# Altium footprint library optics.PcbLib: 67 footprints (part 3 of 5)
Each footprint in its own frame and in the unit in brackets; x right, y up, seen from the top. Pads: shape width x height; smd on the part's side, far side on the other; paste and mask are expansions set on the pad; w line width, h text height; cw(c..) or ccw(c..) is an arc to the next point about the centre after c.
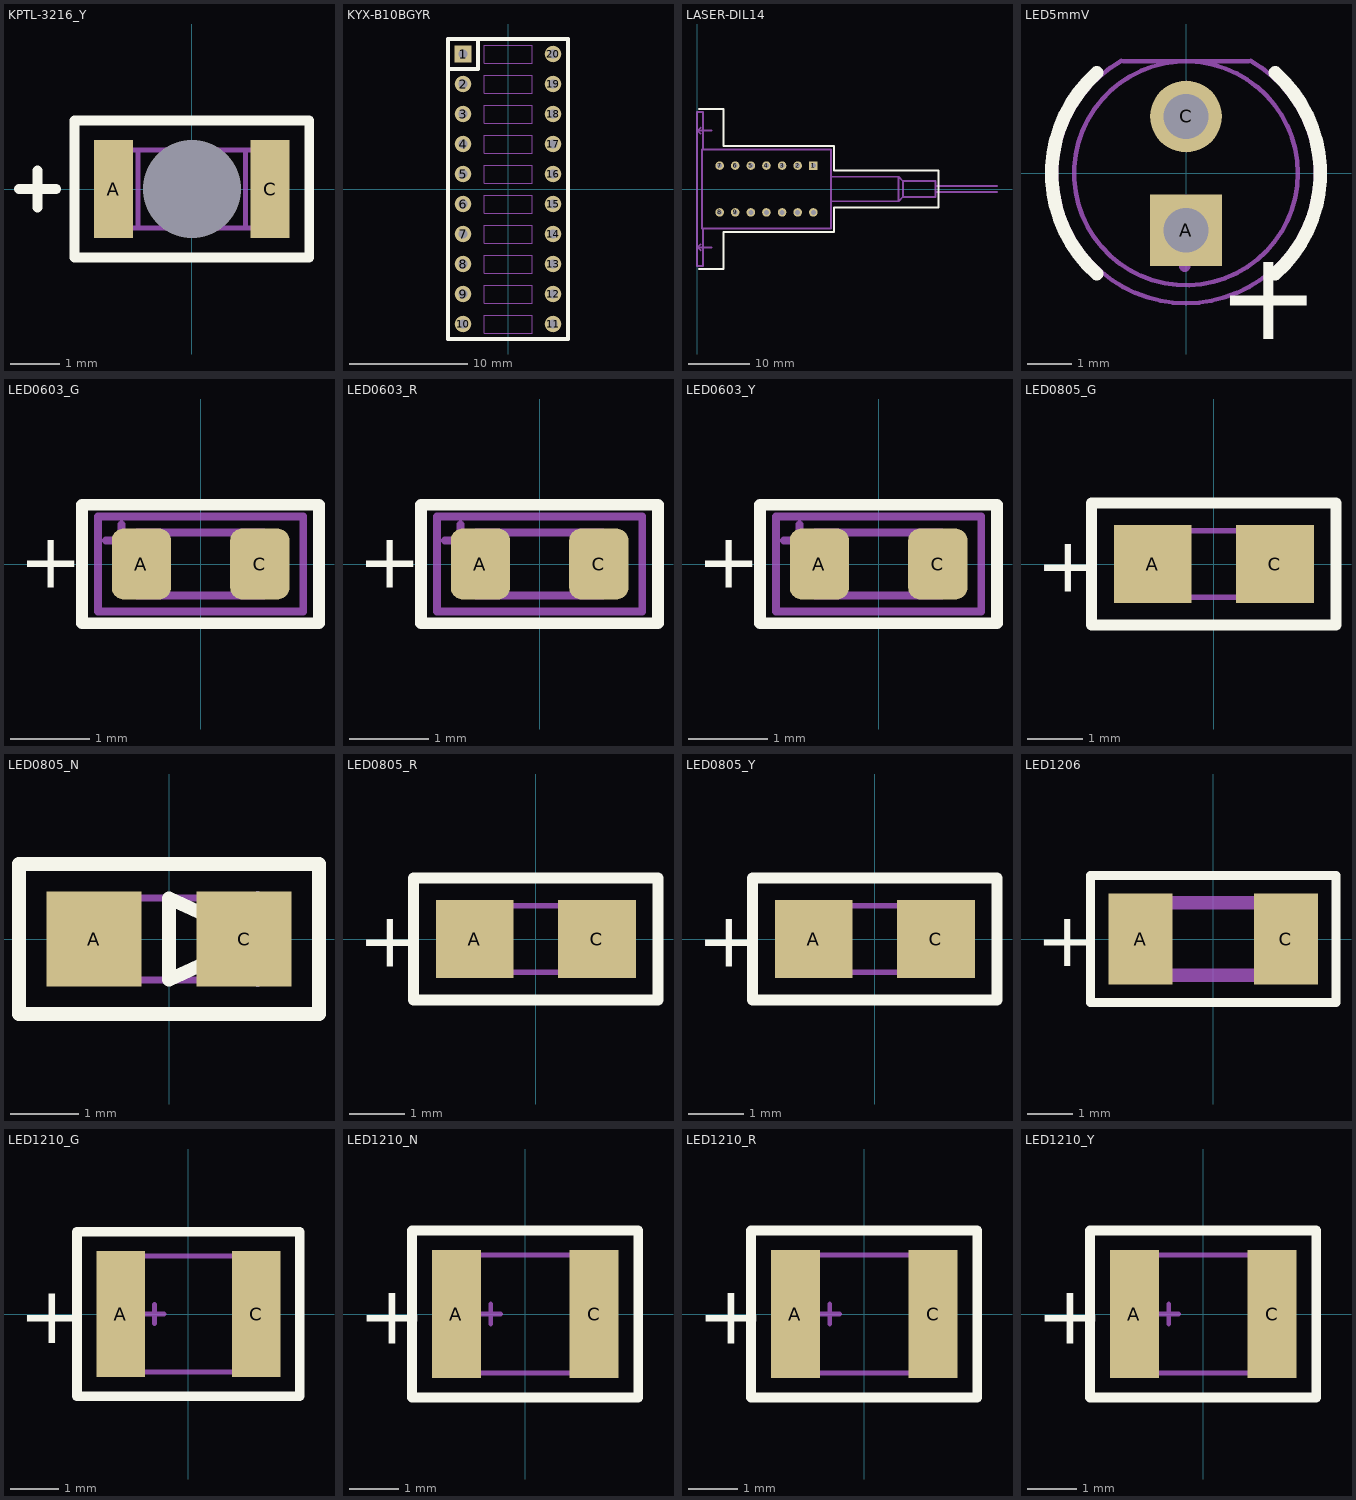
[diagram p2: the footprints below, top view; thin cyan lines are the x and y axes]

## KPTL-3216_Y [mm]
height 0.3
pads (3):
  rect 0.8x2 smd: A(-1.6,0) C(1.6,0)
  round 0 hole 2 unplated mask+1.2: LED(0,0)
Top Overlay:
  lines w0.2: -3.537,0 -2.775,0 ; -3.156,-0.381 -3.156,0.381 ; -2.4,-1.4 -2.4,1.4 2.4,1.4 2.4,-1.4 -2.4,-1.4
Top Solder:
  rectangle: -1.3,-1 1.3,1
Mechanical 1:
  circle w0.1: c0,0 r0.806
  lines w0.1: -1.1,-0.8 -1.1,0.8 ; 1.1,-0.8 1.1,0.8 ; -1.6,-0.8 -1.6,0.8 1.6,0.8 1.6,-0.8 -1.6,-0.8
3D body: height 0.3, standoff 0, extent -1.6,-0.8 1.6,0.8
3D body: height 0.1, standoff -0.9, extent -0.799,-0.8 0.8,0.8

## KYX-B10BGYR [mm]
height 8.5
pads (20):
  rect 1.4x1.4 hole 0.8: 1(-3.81,11.43)
  round 1.4 hole 0.8: 2(-3.81,8.89) 3(-3.81,6.35) 4(-3.81,3.81) 5(-3.81,1.27) 6(-3.81,-1.27) 7(-3.81,-3.81) 8(-3.81,-6.35) 9(-3.81,-8.89) 10(-3.81,-11.43) 11(3.81,-11.43) 12(3.81,-8.89) 13(3.81,-6.35) 14(3.81,-3.81) 15(3.81,-1.27) 16(3.81,1.27) 17(3.81,3.81) 18(3.81,6.35) 19(3.81,8.89) 20(3.81,11.43)
Top Overlay:
  lines w0.3: -5.08,10.16 -2.54,10.16 -2.54,12.7 ; -5.08,-12.7 -5.08,12.7 5.08,12.7 5.08,-12.7 -5.08,-12.7
Mechanical 1:
  lines w0.1: -2.032,-12.192 -2.032,-10.668 2.032,-10.668 2.032,-12.192 -2.032,-12.192 ; -2.032,-9.652 -2.032,-8.128 2.032,-8.128 2.032,-9.652 -2.032,-9.652 ; -2.032,-7.112 -2.032,-5.588 2.032,-5.588 2.032,-7.112 -2.032,-7.112 ; -2.032,-4.572 -2.032,-3.048 2.032,-3.048 2.032,-4.572 -2.032,-4.572 ; -2.032,-2.032 2.032,-2.032 2.032,-0.508 -2.032,-0.508 -2.032,-2.032 ; -2.032,0.508 2.032,0.508 2.032,2.032 -2.032,2.032 -2.032,0.508 ; -2.032,3.048 2.032,3.048 2.032,4.572 -2.032,4.572 -2.032,3.048 ; -2.032,5.588 2.032,5.588 2.032,7.112 -2.032,7.112 -2.032,5.588 ; -2.032,8.128 2.032,8.128 2.032,9.652 -2.032,9.652 -2.032,8.128 ; -2.032,10.668 -2.032,12.192 2.032,12.192 2.032,10.668 -2.032,10.668
  lines w0.3: -5.08,-12.7 -5.08,12.7 5.08,12.7 5.08,-12.7 -5.08,-12.7
3D body: height 8, standoff 0.5, extent -5.08,-12.7 5.08,12.7
3D body: height 8.2, standoff 8, extent -5.08,-12.7 5.08,12.7
3D body: height 8.3, standoff 8.1, extent -2.032,10.414 2.032,12.446
3D body: height 8.3, standoff 8.1, extent -2.032,7.874 2.032,9.906
3D body: height 8.3, standoff 8.1, extent -2.032,5.334 2.032,7.366
3D body: height 8.3, standoff 8.1, extent -2.032,2.794 2.032,4.826
3D body: height 8.3, standoff 8.1, extent -2.032,0.254 2.032,2.286
3D body: height 8.3, standoff 8.1, extent -2.032,-2.286 2.032,-0.254
3D body: height 8.3, standoff 8.1, extent -2.032,-4.826 2.032,-2.794
3D body: height 8.3, standoff 8.1, extent -2.032,-7.366 2.032,-5.334
3D body: height 8.3, standoff 8.1, extent -2.032,-9.906 2.032,-7.874
3D body: height 8.3, standoff 8.1, extent -2.032,-12.446 2.032,-10.414

## LASER-DIL14 [mm]
pads (14):
  rect 1.4x1.4 hole 0.8: 1(18.92,3.81)
  round 1.4 hole 0.8: 2(16.38,3.81) 3(13.84,3.81) 4(11.3,3.81) 5(8.76,3.81) 6(6.22,3.81) 7(3.68,3.81) 8(3.68,-3.81) 9(6.22,-3.81) 10(8.76,-3.81) 11(11.3,-3.81) 12(13.84,-3.81) 13(16.38,-3.81) 14(18.92,-3.81)
Top Overlay:
  lines w0.3: 0.3,-13 4.3,-13 4.3,-7 22.3,-7 22.3,-3 39.3,-3 39.3,3 22.3,3 22.3,7 4.3,7 4.3,13 0.3,13
Mechanical 1:
  lines w0.3: 0.6,-10 0,-9.5 ; 0.6,-9 0,-9.5 ; 0.6,9 0,9.5 ; 0.6,10 0,9.5 ; 1,-6.4 1,-12.5 0,-12.5 0,12.5 1,12.5 1,6.4 ; 2.4,-9.5 0,-9.5 ; 2.4,9.5 0,9.5 ; 21.8,-2 32.8,-2 ; 21.8,2 32.8,2 ; 38.8,-0.5 48.8,-0.5 ; 38.8,0.5 48.8,0.5 ; 32.8,-2 33.5,-1.3 ; 32.8,-2 32.8,2 ; 32.8,2 33.5,1.3 ; 33.5,-1.3 38.8,-1.3 38.8,1.3 33.5,1.3 ; 33.5,-1.3 33.5,1.3 ; 0.8,-6.4 21.8,-6.4 21.8,6.4 0.8,6.4 0.8,-6.4

## LED5mmV [mm] "LED d=5mm vertical"
height 12
pads (2):
  rect 1.6x1.6 hole 1: A(0,-1.27)
  round 1.6 hole 1: C(0,1.27)
Top Overlay:
  lines w0.3: -1.992,-2.243 cw(c0,0) -1.992,2.243 ; 1.992,-2.243 ccw(c0,0) 1.992,2.243
  text "+" at 0.7,-3.7 h2
Mechanical 1:
  circle w0.1: c0,0 r2.5
  lines w0.1: -1.45,2.511 ccw(c0,0) 1.45,2.511 ; -1.4,2.5 1.4,2.5
  lines w0.254: -0.665,-1.44 0.605,-1.44 ; -0.03,-2.075 -0.03,-0.805
3D body: height 11.9, standoff 3.3, extent -3,-2.996 3,2.5
3D body: height 6, standoff -3, extent -0.3,-1.6 0.3,-1
3D body: height 6, standoff -2, extent -0.3,1 0.3,1.6

## LED0603_G [mm]
height 0.6
pads (2):
  rrect40% 0.75x0.9 smd: A(-0.75,0) C(0.75,0)
Top Overlay:
  lines w0.15: -1.5,-0.75 -1.5,0.75 1.5,0.75 1.5,-0.75 -1.5,-0.75
  text "+" at -2.3,-0.3 h0.7
Mechanical 1:
  lines w0.1: -0.5,-0.4 -0.5,0.4 ; 0.5,-0.4 0.5,0.4 ; -0.8,-0.4 -0.8,-0.2 -0.7,-0.1 -0.7,0.1 -0.8,0.2 -0.8,0.4 0.8,0.4 0.8,0.2 0.7,0.1 0.7,-0.1 0.8,-0.2 0.8,-0.4 -0.8,-0.4
Mechanical 5:
  lines w0.1: -1.2,0.3 -0.8,0.3 ; -1,0.1 -1,0.5 ; -1.3,-0.6 -1.3,0.6 1.3,0.6 1.3,-0.6 -1.3,-0.6
  text ".Designator" at -0.7,-0.4 h0.8
Mechanical 6:
  lines w0.1: -1.2,0.3 -0.8,0.3 ; -1,0.1 -1,0.5 ; -1.3,-0.6 1.3,-0.6 1.3,0.6 -1.3,0.6 -1.3,-0.6
  text ".Comment" at -0.7,-0.4 h0.8
3D body: height 0.6, standoff 0.31, extent -0.5,-0.4 0.5,0.4
3D body: height 0.3, standoff 0, extent -0.8,-0.4 0.8,0.4

## LED0603_R [mm]
height 0.6
pads (2):
  rrect40% 0.75x0.9 smd: A(-0.75,0) C(0.75,0)
Top Overlay:
  lines w0.15: -1.5,-0.75 -1.5,0.75 1.5,0.75 1.5,-0.75 -1.5,-0.75
  text "+" at -2.3,-0.3 h0.7
Mechanical 1:
  lines w0.1: -0.5,-0.4 -0.5,0.4 ; 0.5,-0.4 0.5,0.4 ; -0.8,-0.4 -0.8,-0.2 -0.7,-0.1 -0.7,0.1 -0.8,0.2 -0.8,0.4 0.8,0.4 0.8,0.2 0.7,0.1 0.7,-0.1 0.8,-0.2 0.8,-0.4 -0.8,-0.4
Mechanical 5:
  lines w0.1: -1.2,0.3 -0.8,0.3 ; -1,0.1 -1,0.5 ; -1.3,-0.6 -1.3,0.6 1.3,0.6 1.3,-0.6 -1.3,-0.6
  text ".Designator" at -0.7,-0.4 h0.8
Mechanical 6:
  lines w0.1: -1.2,0.3 -0.8,0.3 ; -1,0.1 -1,0.5 ; -1.3,-0.6 1.3,-0.6 1.3,0.6 -1.3,0.6 -1.3,-0.6
  text ".Comment" at -0.7,-0.4 h0.8
3D body: height 0.3, standoff 0, extent -0.8,-0.4 0.8,0.4
3D body: height 0.6, standoff 0.31, extent -0.5,-0.4 0.5,0.4

## LED0603_Y [mm]
height 0.6
pads (2):
  rrect40% 0.75x0.9 smd: A(-0.75,0) C(0.75,0)
Top Overlay:
  lines w0.15: -1.5,-0.75 1.5,-0.75 1.5,0.75 -1.5,0.75 -1.5,-0.75
  text "+" at -2.3,-0.3 h0.7
Mechanical 1:
  lines w0.1: -0.5,-0.4 -0.5,0.4 ; 0.5,-0.4 0.5,0.4 ; -0.8,-0.4 0.8,-0.4 0.8,-0.2 0.7,-0.1 0.7,0.1 0.8,0.2 0.8,0.4 -0.8,0.4 -0.8,0.2 -0.7,0.1 -0.7,-0.1 -0.8,-0.2 -0.8,-0.4
Mechanical 5:
  lines w0.1: -1.2,0.3 -0.8,0.3 ; -1,0.1 -1,0.5 ; -1.3,-0.6 1.3,-0.6 1.3,0.6 -1.3,0.6 -1.3,-0.6
  text ".Designator" at -0.7,-0.4 h0.8
Mechanical 6:
  lines w0.1: -1.2,0.3 -0.8,0.3 ; -1,0.1 -1,0.5 ; -1.3,-0.6 -1.3,0.6 1.3,0.6 1.3,-0.6 -1.3,-0.6
  text ".Comment" at -0.7,-0.4 h0.8
3D body: height 0.3, standoff 0, extent -0.8,-0.4 0.8,0.4
3D body: height 0.6, standoff 0.31, extent -0.5,-0.4 0.5,0.4

## LED0805_G [mm]
height 0.8
pads (2):
  rect 1.4x1.4 smd: A(-1.1,0) C(1.1,0)
Top Overlay:
  lines w0.2: -2.2,-1.1 -2.2,1.1 2.2,1.1 2.2,-1.1 -2.2,-1.1
  text "+" at -3.2,-0.5 h1
Mechanical 1:
  lines w0.1: -0.7,-0.6 -0.7,0.6 ; 0.7,-0.6 0.7,0.6 ; -1,-0.6 1,-0.6 1,-0.3 0.9,-0.2 0.9,0.2 1,0.3 1,0.6 -1,0.6 -1,0.3 -0.9,0.2 -0.9,-0.2 -1,-0.3 -1,-0.6
3D body: height 0.3, standoff 0, extent -1,-0.6 1,0.6
3D body: height 0.8, standoff 0.31, extent -0.7,-0.6 0.7,0.6

## LED0805_N [mm]
height 0.8
pads (2):
  rect 1.4x1.4 smd: A(-1.1,0) C(1.1,0)
Top Overlay:
  lines w0.2: 1.3,-0.6 1.3,0.6 ; -2.2,-1.1 2.2,-1.1 2.2,1.1 -2.2,1.1 -2.2,-1.1 ; 0,-0.6 0,0.6 1.3,0 0,-0.6
Mechanical 1:
  lines w0.1: -0.7,-0.6 -0.7,0.6 ; 0.7,-0.6 0.7,0.6 ; -1,-0.6 -1,-0.3 -0.9,-0.2 -0.9,0.2 -1,0.3 -1,0.6 1,0.6 1,0.3 0.9,0.2 0.9,-0.2 1,-0.3 1,-0.6 -1,-0.6
3D body: height 0.8, standoff 0.31, extent -0.7,-0.6 0.7,0.6
3D body: height 0.3, standoff 0, extent -1,-0.6 1,0.6

## LED0805_R [mm]
height 0.8
pads (2):
  rect 1.4x1.4 smd: A(-1.1,0) C(1.1,0)
Top Overlay:
  lines w0.2: -2.2,-1.1 -2.2,1.1 2.2,1.1 2.2,-1.1 -2.2,-1.1
  text "+" at -3.2,-0.5 h1
Mechanical 1:
  lines w0.1: -0.7,-0.6 -0.7,0.6 ; 0.7,-0.6 0.7,0.6 ; -1,-0.6 1,-0.6 1,-0.3 0.9,-0.2 0.9,0.2 1,0.3 1,0.6 -1,0.6 -1,0.3 -0.9,0.2 -0.9,-0.2 -1,-0.3 -1,-0.6
3D body: height 0.3, standoff 0, extent -1,-0.6 1,0.6
3D body: height 0.8, standoff 0.31, extent -0.7,-0.6 0.7,0.6

## LED0805_Y [mm]
height 0.8
pads (2):
  rect 1.4x1.4 smd: A(-1.1,0) C(1.1,0)
Top Overlay:
  lines w0.2: -2.2,-1.1 -2.2,1.1 2.2,1.1 2.2,-1.1 -2.2,-1.1
  text "+" at -3.2,-0.5 h1
Mechanical 1:
  lines w0.1: -0.7,-0.6 -0.7,0.6 ; 0.7,-0.6 0.7,0.6 ; -1,-0.6 1,-0.6 1,-0.3 0.9,-0.2 0.9,0.2 1,0.3 1,0.6 -1,0.6 -1,0.3 -0.9,0.2 -0.9,-0.2 -1,-0.3 -1,-0.6
3D body: height 0.3, standoff 0, extent -1,-0.6 1,0.6
3D body: height 0.8, standoff 0.31, extent -0.7,-0.6 0.7,0.6

## LED1206 [mm]
pads (2):
  rect 1.4x2 smd: A(-1.6,0) C(1.6,0)
Top Overlay:
  lines w0.2: -2.7,-1.4 -2.7,1.4 2.7,1.4 2.7,-1.4 -2.7,-1.4
  text "+" at -3.9,-0.6 h1.2
Mechanical 1:
  lines w0.3: -1.1,-0.8 -1.1,0.8 ; 1.1,-0.8 1.1,0.8 ; -1.6,-0.8 -1.6,0.8 1.6,0.8 1.6,-0.8 -1.6,-0.8

## LED1210_G [mm]
height 2.4
pads (2):
  rect 1x2.6 smd: A(-1.4,0) C(1.4,0)
Top Overlay:
  lines w0.2: -2.3,-1.7 2.3,-1.7 2.3,1.7 -2.3,1.7 -2.3,-1.7
  text "+" at -3.5,-0.6 h1.2
Mechanical 1:
  lines w0.1: -1.1,-1.2 -1.1,1.2 ; -0.9,0 -0.5,0 ; -0.7,-0.2 -0.7,0.2 ; 1.1,-1.2 1.1,1.2 ; -1.6,-1.2 1.6,-1.2 1.6,1.2 -1.6,1.2 -1.6,-1.2
3D body: height 2.4, standoff 0.2, extent -1.099,-1.1 1.099,1.1
3D body: height 1.4, standoff 0.3, extent -1.2,-1.15 1.2,1.15
3D body: height 0.6, standoff 0, extent -1.6,-1.2 1.6,1.2

## LED1210_N [mm]
height 2.4
pads (2):
  rect 1x2.6 smd: A(-1.4,0) C(1.4,0)
Top Overlay:
  lines w0.2: -2.3,-1.7 2.3,-1.7 2.3,1.7 -2.3,1.7 -2.3,-1.7
  text "+" at -3.4,-0.6 h1.2
Mechanical 1:
  lines w0.1: -1.1,-1.2 -1.1,1.2 ; -0.9,0 -0.5,0 ; -0.7,-0.2 -0.7,0.2 ; 1.1,-1.2 1.1,1.2 ; -1.6,-1.2 1.6,-1.2 1.6,1.2 -1.6,1.2 -1.6,-1.2
3D body: height 2.4, standoff 0.2, extent -1.099,-1.1 1.099,1.1
3D body: height 1.4, standoff 0.3, extent -1.2,-1.15 1.2,1.15
3D body: height 0.6, standoff 0, extent -1.6,-1.2 1.6,1.2

## LED1210_R [mm]
height 2.4
pads (2):
  rect 1x2.6 smd: A(-1.4,0) C(1.4,0)
Top Overlay:
  lines w0.2: -2.3,-1.7 2.3,-1.7 2.3,1.7 -2.3,1.7 -2.3,-1.7
  text "+" at -3.4,-0.6 h1.2
Mechanical 1:
  lines w0.1: -1.1,-1.2 -1.1,1.2 ; -0.9,0 -0.5,0 ; -0.7,-0.2 -0.7,0.2 ; 1.1,-1.2 1.1,1.2 ; -1.6,-1.2 1.6,-1.2 1.6,1.2 -1.6,1.2 -1.6,-1.2
3D body: height 2.4, standoff 0.2, extent -1.099,-1.1 1.099,1.1
3D body: height 1.4, standoff 0.3, extent -1.2,-1.15 1.2,1.15
3D body: height 0.6, standoff 0, extent -1.6,-1.2 1.6,1.2

## LED1210_Y [mm]
height 2.4
pads (2):
  rect 1x2.6 smd: A(-1.4,0) C(1.4,0)
Top Overlay:
  lines w0.2: -2.3,-1.7 -2.3,1.7 2.3,1.7 2.3,-1.7 -2.3,-1.7
  text "+" at -3.4,-0.6 h1.2
Mechanical 1:
  lines w0.1: -1.1,-1.2 -1.1,1.2 ; -0.9,0 -0.5,0 ; -0.7,-0.2 -0.7,0.2 ; 1.1,-1.2 1.1,1.2 ; -1.6,-1.2 -1.6,1.2 1.6,1.2 1.6,-1.2 -1.6,-1.2
3D body: height 0.6, standoff 0, extent -1.6,-1.2 1.6,1.2
3D body: height 1.4, standoff 0.3, extent -1.2,-1.15 1.2,1.15
3D body: height 2.4, standoff 0.2, extent -1.099,-1.1 1.099,1.1